# Altium footprint library k7sch1.PcbLib: 2 footprints
Each footprint in its own frame and in the unit in brackets; x right, y up, seen from the top. Pads: shape width x height; smd on the part's side, far side on the other; paste and mask are expansions set on the pad; w line width, h text height; cw(c..) or ccw(c..) is an arc to the next point about the centre after c.
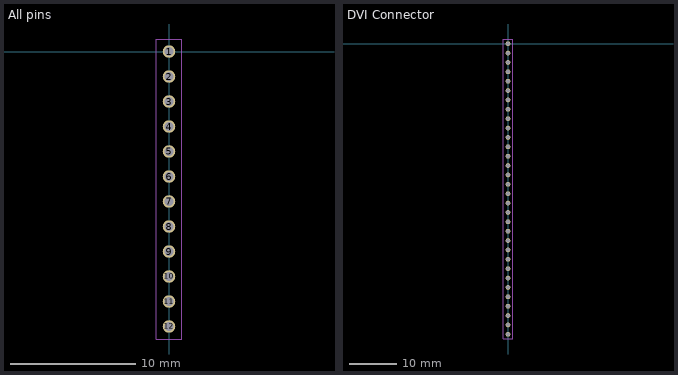
[diagram p0: the footprints below, top view; thin cyan lines are the x and y axes]

## All pins [mm]
pads (12):
  round 1 hole 0.75: 1(0,0) 2(0,-2) 3(0,-4) 4(0,-6) 5(0,-8) 6(0,-10) 7(0,-12) 8(0,-14) 9(0,-16) 10(0,-18) 11(0,-20) 12(0,-22)
Mechanical 15:
  lines w0.1: -1,-23 -1,1 1,1 1,-23 -1,-23

## DVI Connector [mm]
pads (32):
  round 1 hole 0.75: 1(0,0) 2(0,-2) 3(0,-4) 4(0,-6) 5(0,-8) 6(0,-10) 7(0,-12) 8(0,-14) 9(0,-16) 10(0,-18) 11(0,-20) 12(0,-22) 13(0,-24) 14(0,-26) 15(0,-28) 16(0,-30) 17(0,-32) 18(0,-34) 19(0,-36) 20(0,-38) 21(0,-40) 22(0,-42) 23(0,-44) 24(0,-46) 25(0,-48) 26(0,-50) 27(0,-52) 28(0,-54) 29(0,-56) 30(0,-58) 31(0,-60) 32(0,-62)
Mechanical 15:
  lines w0.1: -1,-63 1,-63 1,1 -1,1 -1,0.5 -1,-63